# Altium footprint library ANALOG_SWITCH(1.8-5V,1-1, 3Ohm, SPST, SOT23-6).PcbLib: 3 footprints
Each footprint in its own frame and in the unit in brackets; x right, y up, seen from the top. Pads: shape width x height; smd on the part's side, far side on the other; paste and mask are expansions set on the pad; w line width, h text height; cw(c..) or ccw(c..) is an arc to the next point about the centre after c.
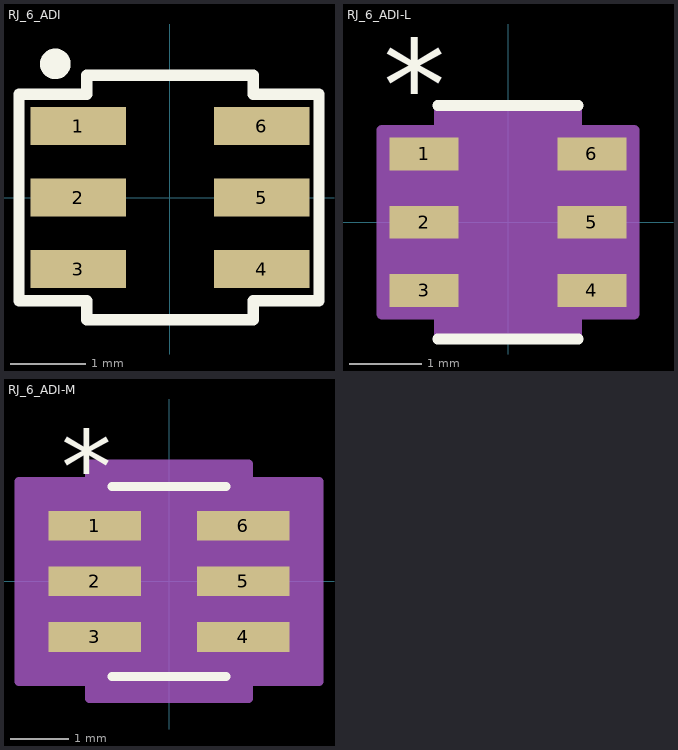
[diagram p0: the footprints below, top view; thin cyan lines are the x and y axes]

## RJ_6_ADI [mil]
pads (6):
  rect 50x20 smd paste+0 mask+0: 1(-48,37.4) 2(-48,0) 3(-48,-37.4) 4(48,-37.4) 5(48,0) 6(48,37.4)
Top Overlay:
  circle w10: c-60,70 r3
  lines w6: -79,-54 -43.5,-54 -43.5,-64 43.5,-64 43.5,-54 78,-54 78,54 43.5,54 43.5,64 -43.5,64 -43.5,54 -79,54 -79,-54
3D body "ADG701BRTZ-REEL7.step": height 57.09, standoff 0, extent -55.12,-57.09 55.12,57.09

## RJ_6_ADI-L [mil]
pads (6):
  rect 38x18 smd paste+0 mask+0: 1(-46,37.4) 2(-46,0) 3(-46,-37.4) 4(46,-37.4) 5(46,0) 6(46,37.4)
Top Overlay:
  lines w6: -38.5,-64 38.5,-64 ; -38.5,64 38.5,64
  text "*" at -68.5,50.4 h50
  text ".Designator" at -137.5,-25 h50
Mechanical 13:
  lines w1: -12,59 ccw(c0,59) 12,59 ; -59,-47.4 -59,-27.4 -33.5,-27.4 -33.5,-47.4 -59,-47.4 ; -59,-10 -59,10 -33.5,10 -33.5,-10 -59,-10 ; -59,27.4 -59,47.4 -33.5,47.4 -33.5,27.4 -59,27.4 ; -33.5,-59 33.5,-59 33.5,59 -33.5,59 -33.5,-59 ; 33.5,-47.4 33.5,-27.4 59,-27.4 59,-47.4 33.5,-47.4 ; 33.5,-10 33.5,10 59,10 59,-10 33.5,-10 ; 33.5,27.4 33.5,47.4 59,47.4 59,27.4 33.5,27.4
  text ".Designator" at -137.5,-25 h50
  text "*" at -36,12.4 h50
Mechanical 15:
  region: 37.5,-63 -37.5,-63 -37.5,-50.4 -69,-50.4 -69,50.4 -37.5,50.4 -37.5,63 37.5,63 37.5,50.4 69,50.4 69,-50.4 37.5,-50.4
  lines w6: -69,-50.4 -37.5,-50.4 -37.5,-63 37.5,-63 37.5,-50.4 69,-50.4 69,50.4 37.5,50.4 37.5,63 -37.5,63 -37.5,50.4 -69,50.4 -69,-50.4
3D body "RJ_6_ADI.step": height 57.09, standoff 0, extent -59.02,-59.02 59.02,59.02

## RJ_6_ADI-M [mil]
pads (6):
  rect 62x20 smd paste+0 mask+0: 1(-50,37.4) 2(-50,0) 3(-50,-37.4) 4(50,-37.4) 5(50,0) 6(50,37.4)
Top Overlay:
  lines w6: -38.5,-64 38.5,-64 ; -38.5,64 38.5,64
  text "*" at -72.5,52.4 h50
  text ".Designator" at -137.5,-25 h50
Mechanical 13:
  lines w1: -12,59 ccw(c0,59) 12,59 ; -59,-47.4 -59,-27.4 -33.5,-27.4 -33.5,-47.4 -59,-47.4 ; -59,-10 -59,10 -33.5,10 -33.5,-10 -59,-10 ; -59,27.4 -59,47.4 -33.5,47.4 -33.5,27.4 -59,27.4 ; -33.5,-59 33.5,-59 33.5,59 -33.5,59 -33.5,-59 ; 33.5,-47.4 33.5,-27.4 59,-27.4 59,-47.4 33.5,-47.4 ; 33.5,-10 33.5,10 59,10 59,-10 33.5,-10 ; 33.5,27.4 33.5,47.4 59,47.4 59,27.4 33.5,27.4
  text ".Designator" at -137.5,-25 h50
  text "*" at -36,14.4 h50
Mechanical 15:
  region: 53.5,-79 -53.5,-79 -53.5,-67.4 -101,-67.4 -101,67.4 -53.5,67.4 -53.5,79 53.5,79 53.5,67.4 101,67.4 101,-67.4 53.5,-67.4
  lines w6: -101,-67.4 -53.5,-67.4 -53.5,-79 53.5,-79 53.5,-67.4 101,-67.4 101,67.4 53.5,67.4 53.5,79 -53.5,79 -53.5,67.4 -101,67.4 -101,-67.4
3D body "RJ_6_ADI.step": height 57.09, standoff 0, extent -59.02,-59.02 59.02,59.02